# EAGLE library part 6180XX325223_618062325223 (library WR-DSUB)
WR-DSUB Female High Density Angled PCB Connector w/o Hex Screw Kind Properties :Quality Class:3 as per CECC 75 301-802 Gender:Female Type:Angled Insulator Material:PBT Insulator Flammability Rating:UL94 V-0 Color:Black Contact Material:Copper Alloy Contact Plating:Selective Gold Contact Type:Stamped Shielding Material:Steel Shielding Plating:Nickel General Information Operating Temperature:-55 up to +105 °C Compliance:RoHS Electrical Properties IR 1:3 A Working Voltage:60V (AC) Withstanding Voltage:1000 V (AC) Contact Resistance:30 mΩ <https://www.we-online.com/components/media/o33091v209%20Family_WR-DSUB_6180xx325223.jpg> Details see: www.we-online.com/en/components/products/DSUB_FEMALE_HIGH_DENSITY_ANGLED_PCB_CONNECTOR_W_O_HEX_SCREW_6180XX325223 Updated by Ella Wu 2023-03-21 2023 (C) Würth Elektronik
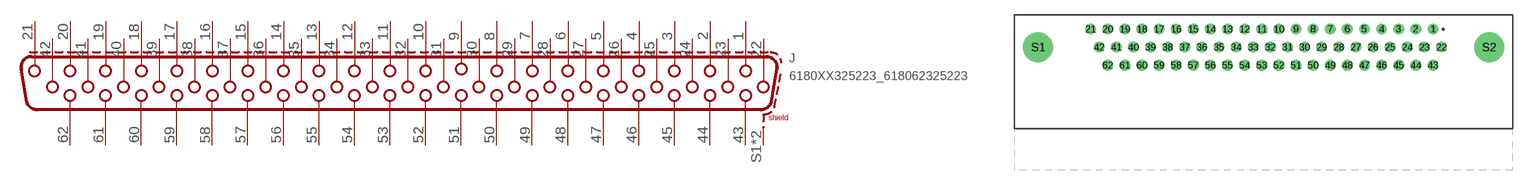
[diagram p7: symbol with the pads of 618062325223; footprint 618062325223]

Designator prefix J

## 6180XX325223_618062325223 (DATASHEET-URL: https://www.we-online.com/redexpert/spec/618062325223?ae; GENDER: Female; OPERATING-TEMPERATURE: -55 °C up to +105 °C; PART-NUMBER: 618062325223; PINS: 62; TYPE: Angled; VALUE: 618062325223; WORKING-VOLTAGE: 60VAC)  [618062325223]
1  1
2  2
3  3
4  4
5  5
6  6
7  7
8  8
9  9
10  10
11  11
12  12
13  13
14  14
15  15
16  16
17  17
18  18
19  19
20  20
21  21
22  22
23  23
24  24
25  25
26  26
27  27
28  28
29  29
30  30
31  31
32  32
33  33
34  34
35  35
36  36
37  37
38  38
39  39
40  40
41  41
42  42
43  43
44  44
45  45
46  46
47  47
48  48
49  49
50  50
51  51
52  52
53  53
54  54
55  55
56  56
57  57
58  58
59  59
60  60
61  61
62  62
S1  SHIELD
S2  SHIELD

## Footprint 618062325223 (pad centres in mm)
WR-DSUB Female High Density Angled PCB Connector w/o Hex Screw , 62 Pins
drill 1: 1 23.846,8.97; 2 21.436,8.97; 3 19.026,8.97; 4 16.616,8.97; 5 14.206,8.97; 6 11.796,8.97; 7 9.386,8.97; 8 6.976,8.97; 9 4.566,8.97; 10 2.156,8.97; 11 -0.254,8.97; 12 -2.664,8.97; 13 -5.074,8.97; 14 -7.484,8.97; 15 -9.894,8.97; 16 -12.304,8.97; 17 -14.714,8.97; 18 -17.124,8.97; 19 -19.534,8.97; 20 -21.944,8.97; 21 -24.354,8.97; 22 25.051,6.43; 23 22.641,6.43; 24 20.231,6.43; 25 17.821,6.43; 26 15.411,6.43; 27 13.001,6.43; 28 10.591,6.43; 29 8.181,6.43; 30 5.771,6.43; 31 3.361,6.43; 32 0.951,6.43; 33 -1.459,6.43; 34 -3.869,6.43; 35 -6.279,6.43; 36 -8.689,6.43; 37 -11.099,6.43; 38 -13.509,6.43; 39 -15.919,6.43; 40 -18.329,6.43; 41 -20.739,6.43; 42 -23.149,6.43; 43 23.846,3.89; 44 21.436,3.89; 45 19.026,3.89; 46 16.616,3.89; 47 14.206,3.89; 48 11.796,3.89; 49 9.386,3.89; 50 6.976,3.89; 51 4.566,3.89; 52 2.156,3.89; 53 -0.254,3.89; 54 -2.664,3.89; 55 -5.074,3.89; 56 -7.484,3.89; 57 -9.894,3.89; 58 -12.304,3.89; 59 -14.714,3.89; 60 -17.124,3.89; 61 -19.534,3.89; 62 -21.944,3.89
drill 3.2: S1 -31.75,6.43; S2 31.75,6.43